# Altium schematic symbol library CurrentProtector_ST890CDR.SchLib: 1 symbol
Pins are listed as number, name and electrical type; pins without a type are passive.

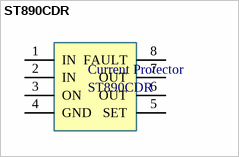
[diagram p0: symbol ST890CDR]

## ST890CDR
designator Current Protector
1.2A Current Limited High-Side Power Switch with Thermal Shutdown
footprint SOIC127P600X175-8N (SOIC, 8-Leads, Body 4.90x3.90mm, Pitch 1.27mm, IPC Medium Density)
pins: 1 IN, 2 IN, 3 ON, 4 GND, 5 SET, 6 OUT, 7 OUT, 8 FAULT